# EAGLE library part 34 (library display-lcd-lxd)
4 Numerical Digit, .35" (8.89) Direct Drive Display Additional Descriptors: none
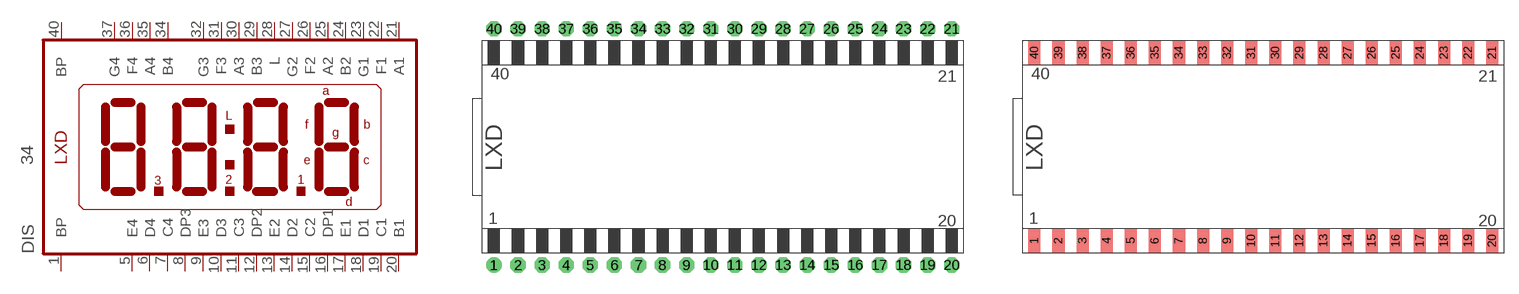
[diagram p21: symbol with the pads of 34-D; footprints 34-D, 34-E]

Designator prefix DIS

## 34DIP  [34-D]
1  BP  pas
5  E4  pas
6  D4  pas
7  C4  pas
8  DP3  pas
9  E3  pas
10  D3  pas
11  C3  pas
12  DP2  pas
13  E2  pas
14  D2  pas
15  C2  pas
16  DP1  pas
17  E1  pas
18  D1  pas
19  C1  pas
20  B1  pas
21  A1  pas
22  F1  pas
23  G1  pas
24  B2  pas
25  A2  pas
26  F2  pas
27  G2  pas
28  L  pas
29  B3  pas
30  A3  pas
31  F3  pas
32  G3  pas
34  B4  pas
35  A4  pas
36  F4  pas
37  G4  pas
40  BP  pas

## 34SMD  [34-E]
Pads as for 34-D

## Footprint 34-D (pad centres in mm)
Glass Size: 2.00" x 0.90" &nbsp &nbsp &nbsp &nbsp &nbsp &nbsp &nbsp &nbsp &nbsp (50.80 x 22.86)
drill 0.813 pad 1.6 round: 1 -24.13,-12.446
drill 0.813 pad 1.6 octagon: 2 -21.59,-12.446; 3 -19.05,-12.446; 4 -16.51,-12.446; 5 -13.97,-12.446; 6 -11.43,-12.446; 7 -8.89,-12.446; 8 -6.35,-12.446; 9 -3.81,-12.446; 10 -1.27,-12.446; 11 1.27,-12.446; 12 3.81,-12.446; 13 6.35,-12.446; 14 8.89,-12.446; 15 11.43,-12.446; 16 13.97,-12.446; 17 16.51,-12.446; 18 19.05,-12.446; 19 21.59,-12.446; 20 24.13,-12.446; 21 24.13,12.446; 22 21.59,12.446; 23 19.05,12.446; 24 16.51,12.446; 25 13.97,12.446; 26 11.43,12.446; 27 8.89,12.446; 28 6.35,12.446; 29 3.81,12.446; 30 1.27,12.446; 31 -1.27,12.446; 32 -3.81,12.446; 33 -6.35,12.446; 34 -8.89,12.446; 35 -11.43,12.446; 36 -13.97,12.446; 37 -16.51,12.446; 38 -19.05,12.446; 39 -21.59,12.446; 40 -24.13,12.446

## Footprint 34-E (pad centres in mm)
Glass Size: 2.00" x 0.90" &nbsp &nbsp &nbsp &nbsp &nbsp &nbsp &nbsp &nbsp &nbsp (50.80 x 22.86)
smd 1.27 x 2.54: 1 -24.13,-9.906; 2 -21.59,-9.906; 3 -19.05,-9.906; 4 -16.51,-9.906; 5 -13.97,-9.906; 6 -11.43,-9.906; 7 -8.89,-9.906; 8 -6.35,-9.906; 9 -3.81,-9.906; 10 -1.27,-9.906; 11 1.27,-9.906; 12 3.81,-9.906; 13 6.35,-9.906; 14 8.89,-9.906; 15 11.43,-9.906; 16 13.97,-9.906; 17 16.51,-9.906; 18 19.05,-9.906; 19 21.59,-9.906; 20 24.13,-9.906; 21 24.13,9.906; 22 21.59,9.906; 23 19.05,9.906; 24 16.51,9.906; 25 13.97,9.906; 26 11.43,9.906; 27 8.89,9.906; 28 6.35,9.906; 29 3.81,9.906; 30 1.27,9.906; 31 -1.27,9.906; 32 -3.81,9.906; 33 -6.35,9.906; 34 -8.89,9.906; 35 -11.43,9.906; 36 -13.97,9.906; 37 -16.51,9.906; 38 -19.05,9.906; 39 -21.59,9.906; 40 -24.13,9.906